# Altium schematic symbol library AD1580BRT.SchLib: 1 symbol
Pins are listed as number, name and electrical type; pins without a type are passive.

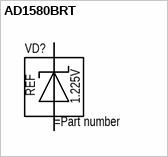
[diagram p0: symbol AD1580BRT]

## AD1580BRT
designator VD?
pins: 1, 2
text: REF; 1.225V